# EAGLE library part LM725 (library oldchips2)
Instrumentation Operational Amplifier
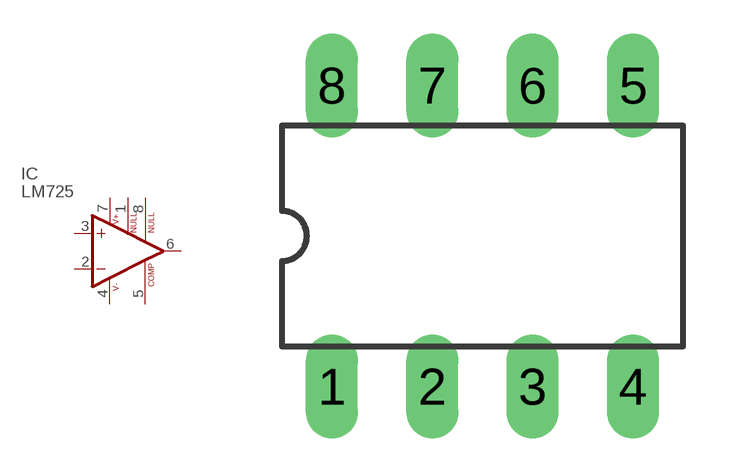
[diagram p5: symbol with the pads of DIL08; footprint DIL08]

Designator prefix IC

## LM725CN  [DIL08]
1  NULL1  pas
2  -  in
3  +  in
4  V-  pwr
5  COMP  pas
6  O  out
7  V+  pwr
8  NULL2  pas

## Footprint DIL08 (pad centres in mm)
Dual In Line
drill 0.813 long: 1 -3.81,-3.81; 2 -1.27,-3.81; 3 1.27,-3.81; 4 3.81,-3.81; 5 3.81,3.81; 6 1.27,3.81; 7 -1.27,3.81; 8 -3.81,3.81